# EAGLE library part 2411* (library Lumberg)
USB Buchse Typ B
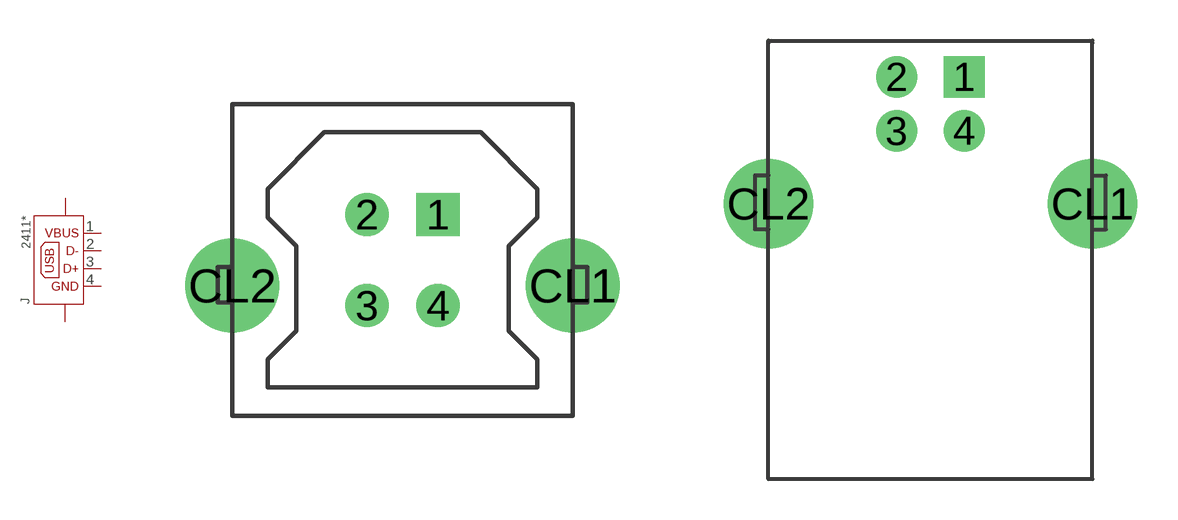
[diagram p1: symbol with the pads of 241101; footprints 241101, 241102]

Designator prefix J

## 2411-01_STEHEND  [241101]
1  1
2  2
3  3
4  4
CL1  CL1
CL2  CL2

## 2411-02_WEISS  [241102]
Pads as for 241101

## 2411-03_SCHWARZ  [241102]
Pads as for 241101

## Footprint 241101 (pad centres in mm)
drill 1 pad 1.524 square: 1 1.25,1.6
drill 1 pad 1.524: 2 -1.25,1.6; 3 -1.25,-1.6; 4 1.25,-1.6
drill 2.3 pad 3.17: CL1 6,-0.9; CL2 -6,-0.9

## Footprint 241102 (pad centres in mm)
USB B Buchse liegend Lumberg 2411 02 (weiss) oder 2411 03 (schwarz)
drill 1 pad 1.524 square: 1 1.25,6.75
drill 1 pad 1.524: 2 -1.25,6.75; 3 -1.25,4.75; 4 1.25,4.75
drill 2.3 pad 3.17: CL1 6,2.05; CL2 -6,2.05